# Altium schematic symbol library Schlib1.SchLib: 75 symbols (part 1 of 3)
Pins are listed as number, name and electrical type; pins without a type are passive.

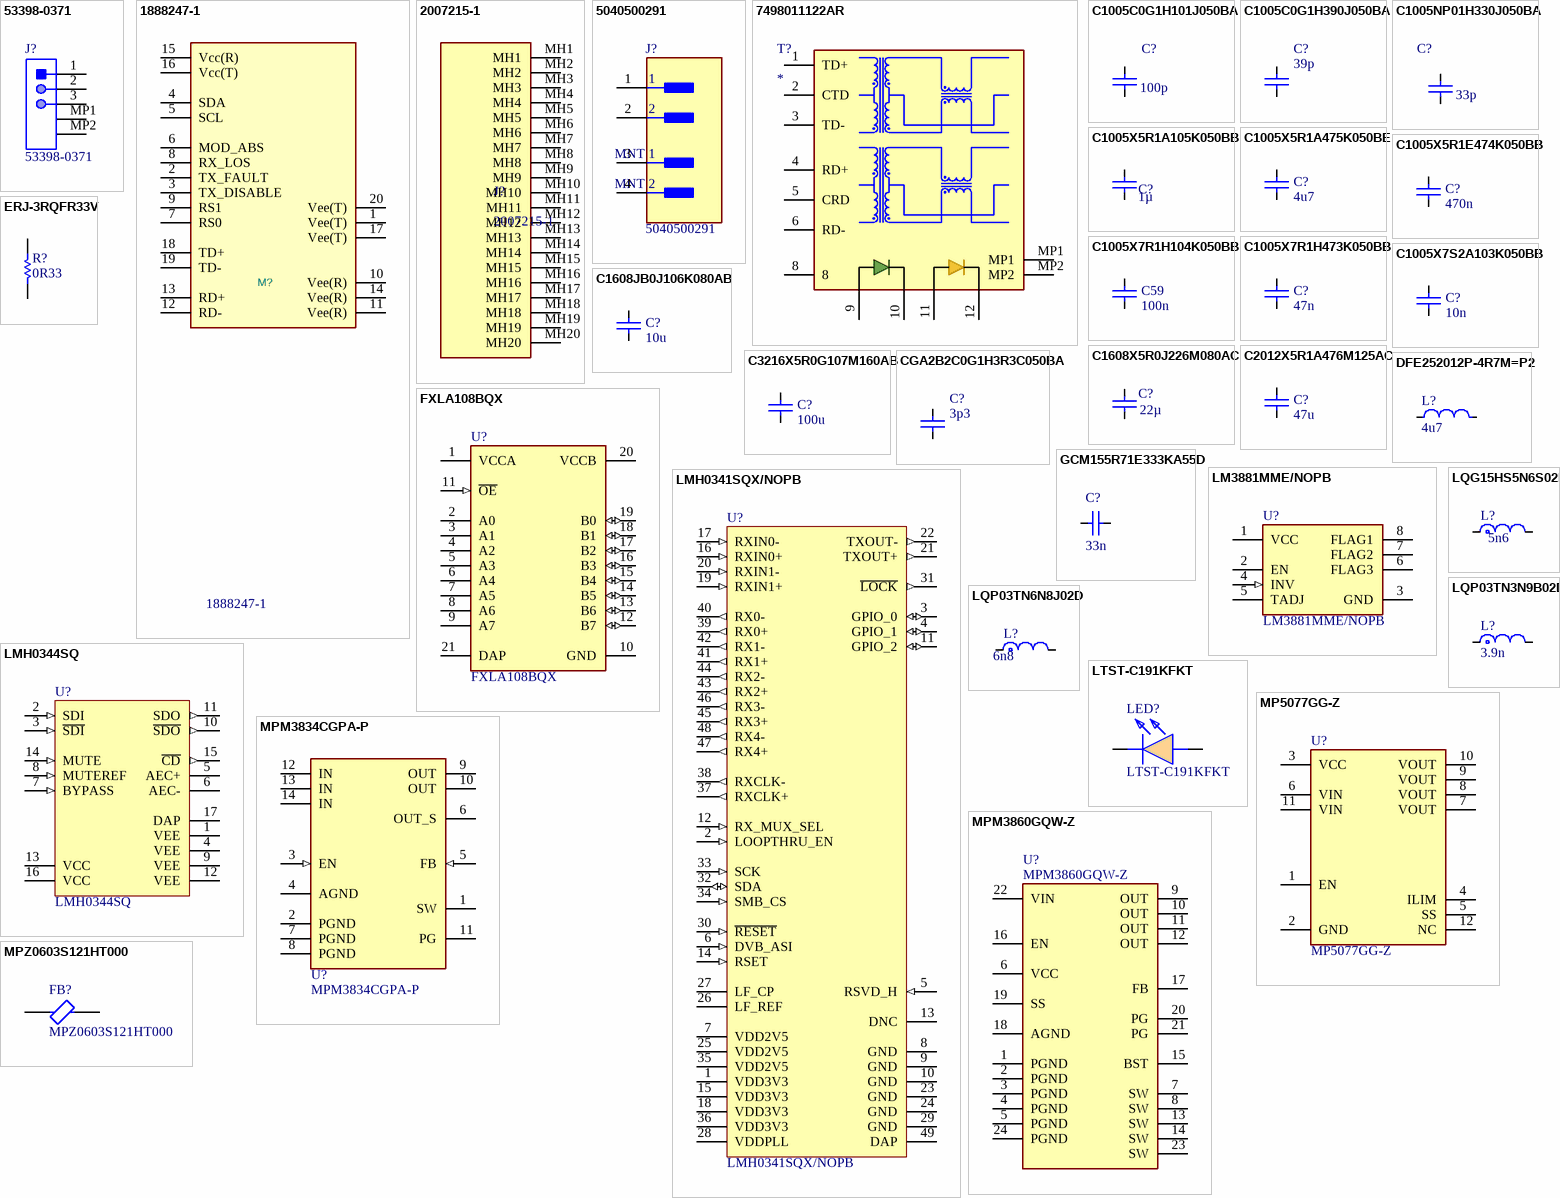
[diagram p0: symbols 53398-0371 to MPZ0603S121HT000]

## 53398-0371
designator J?
Male Header, Pitch 1.25 mm, 1 x 3 Position, Height 4.7 mm, -40 to 85 degC, RoHS, Tape and Reel; Voltage Rating: 125V; Brand: Molex; Pitch: 1.25mm; Mounting Angle: Vertical; Number of Positions: 3; Current Rating: 1A; Product Type: Headers; Tradename: PicoBlade; Package Reference: 53398-0371; Factory Pack Quantity: 1000; Product Category: Headers&WireHousings; Package Description: Male Header, Pitch 1.25 mm, 1 x 3 Position, Height 4.7 mm; Manufacturer: Molex; Packaging: Reel; Datasheet URL: http://www.molex.com/pdm_docs/sd/533980371_sd.pdf; Type: Shrouded; Manufacturer URL: http://www.molex.com/; Datasheet Version: Rev. J, 09/2015; Number of Positions / Contacts: 3; RoHS: Details; Contact Plating: Tin; Mounting Technology: SurfaceMount; Termination Style: SMD; Housing Material: Nylon; Number of Rows: 1; Mounting Style: SMD/SMT; Series: 53398; Contact Material: PhosphorBronze
footprint MOLX-53398-0371_V (SMD, 3-Leads, Body 8.9x3.7mm, Pitch 1.25mm)
pins: 1, 2, 3, MP1, MP2

## 1888247-1
designator M?
SFP+, Connector, .8mm [.031in] Centerline, Power & Signal, Operating Temperature Range -55 – 85 °C [-67 – 185 °F], Data Rate (Max) 16Gb/sec; Manufacturer: TE Connectivity (TE; License: Apache-2.0; Author: Parsa Malekpor; Value: 1888247-1; Part Number: 1888247-1
footprint 1888247-1
pins: 1 Vee(T), 2 TX_FAULT, 3 TX_DISABLE, 4 SDA, 5 SCL, 6 MOD_ABS, 7 RS0, 8 RX_LOS, 9 RS1, 10 Vee(R), 11 Vee(R), 12 RD-, 13 RD+, 14 Vee(R), 15 Vcc(R), 16 Vcc(T), 17 Vee(T), 18 TD+, 19 TD-, 20 Vee(T)

## 2007215-1
designator J?
Position SFP+ Cage Connector Press-Fit Through Hole
footprint 2007215-1
pins: MH1, MH2, MH3, MH4, MH5, MH6, MH7, MH8, MH9, MH10, MH11, MH12, MH13, MH14, MH15, MH16, MH17, MH18, MH19, MH20

## 5040500291
designator J?
CONN HEADER SMD R/A 2POS 1.5MM; Manufacturer: Molex; Current Rating: 3.5A; Conn Orientation: Right Angle; Conn Gender: Male; Number Of Contacts: 2; Voltage Rating: 150V; Lead Free: Yes; Contact Material: Gold,Nickel; Manufacturer Part Number: 5040500291; Digikey Description: CONN HEADER SMD R/A 2POS 1.5MM; Temperature: -40°C to +105°C; Category: Conn; Device Class L3: unset; Automotive: No; Device Class L1: Connectors; Number Of Rows: 1; Octopart: https://octopart.com/504050-0291-molex-99548498; Pitch: 1.5mm; Footprint Url: https://www.molex.com/pdm_docs/sd/5040500291_sd.pdf; ComponentLink2Description: Datasheet; ComponentLink2URL: https://www.molex.com/webdocs/datasheets/pdf/en-us/5040500291_PCB_HEADERS.pdf; Height: 2.15mm; RoHS: TRUE; Temperature Range High: +105°C; Device Class L2: Headers and Wire Housings; Temperature Range Low: -40°C; Package: 0
footprint FP-5040500291-MFG
pins: 1, 2, 3 MNT 1, 4 MNT 2

## 7498011122AR
designator T?
Transformer; Manufacturer_Name: Wurth Elektronik; Manufacturer_Part_Number: 7498011122AR; Datasheet Link: https://www.we-online.com/catalog/datasheet/7498011122AR.pdf; Height: 11mm; Mouser Part Number: 710-7498011122AR; Mouser Price/Stock: https://www.mouser.co.uk/ProductDetail/Wurth-Elektronik/7498011122AR?qs=GBLSl2AkiruAAlB45OgRtA%3D%3D
footprint 7498011122AR
pins: 1 TD+, 2 CTD, 3 TD-, 4 RD+, 5 CRD, 6 RD-, 8, 9 A_YELLOW, 10 K_YELLOW, 11 A_GREEN, 12 K_GREEN, MP1, MP2

## C1005C0G1H101J050BA
designator C?  value 100p  (hidden comment: C1005C0G1H101J050BA)
MLCC 100pF ±5% 50V C0G SMD 0402; Temperature Coefficient: 30ppm/°C; Dielectric Material: Ceramic; Packaging: Tape and Reel; Number of Pins: 2; Construction: Flat; Max Operating Temperature: 125°C; Depth: 0.5mm; Radiation Hardening: No; Length: 1mm; Mount: Surface Mount; Thickness: 0.022inch; RoHS Compliant: Yes; Width: 0.5mm; Termination: SMD/SMT; Min Operating Temperature: -55°C; Case/Package: 0402; Tolerance: 5%; Height: 0.5mm; Dielectric: C0G; REACH SVHC: No SVHC; Case Code (Imperial): 0402; Voltage Rating: 50V; Package Quantity: 1; Voltage Rating (DC): 50V; Weight: 2.3E-05oz; Series: C; Case Code (Metric): 1005; Voltage: 50V; Lead Free: Lead Free; Part Number: C1005C0G1H101J050BA
footprint FP-C1005-050-0_05-MFG
footprint FP-C1005-050-0_05-IPC_B
footprint FP-C1005-050-0_05-IPC_C
footprint FP-C1005-050-0_05-IPC_A
pins: 1, 2

## C1005C0G1H390J050BA
designator C?  value 39p  (hidden comment: C1005C0G1H390J050BA)
MLCC 39pF ±5% 50V C0G SMD 0402; Dielectric Material: Ceramic; Max Operating Temperature: 125°C; Voltage Rating: 50V; Height: 0.5mm; Tolerance: 5%; Width: 0.02inch; Mount: Surface Mount; Thickness: 0.022inch; Package Quantity: 1; Length: 1mm; Voltage Rating (DC): 50V; Case Code (Metric): 1005; Depth: 0.5mm; Series: C; Construction: Flat; Case/Package: 0402; Lead Free: Lead Free; RoHS Compliant: Yes; Termination: SMD/SMT; Radiation Hardening: No; Packaging: Tape and Reel; Min Operating Temperature: -55°C; Dielectric: C0G; Case Code (Imperial): 0402; Weight: 2.3E-05oz; Part Number: C1005C0G1H390J050BA
footprint FP-C1005-050-0_05-IPC_B
footprint FP-C1005-050-0_05-MFG
footprint FP-C1005-050-0_05-IPC_A
footprint FP-C1005-050-0_05-IPC_C
pins: 1, 2

## C1005NP01H330J050BA
designator C?  value 33p  (hidden comment: C1005NP01H330J050BA)
MLCC 33pF ±5% 50V NP0 SMD 0402; Dielectric: C0G; Case Code (Imperial): 0402; Thickness: 0.022inch; Width: 0.02inch; Case Code (Metric): 1005; Length: 0.039inch; Voltage Rating (DC): 50V; Mount: Surface Mount; Max Operating Temperature: 150°C; Height: 0.5mm; Weight: 2.3E-05oz; Voltage Rating: 50V; Case/Package: 0402; Features: High Temperature; Termination: SMD/SMT; Package Quantity: 10000; RoHS Compliant: Yes; Series: C; Tolerance: 5%; Min Operating Temperature: -55°C; Packaging: Tape and Reel; Part Number: C1005NP01H330J050BA
footprint FP-C1005-050-0_05-IPC_C
footprint FP-C1005-050-0_05-MFG
footprint FP-C1005-050-0_05-IPC_A
footprint FP-C1005-050-0_05-IPC_B
pins: 1, 2

## C1005X5R1A105K050BB
designator C?  value 1µ  (hidden comment: C1005X5R1A105K050BB)
MLCC 1 uF, +/- 10%, 10 V, -55 to 85 degC, 0402 (1005 Metric), RoHS, Tape and Reel; Manufacturer: TDK; PCN Part Number: MLCCPartNumberChange30/Nov/2012; Product Training Modules: CSeriesGeneralApplicationsSEAT,CCV,andTVCLDesignToolsGuidetoReplacinganElectrolyticCapacitorwithanMLCC; Voltage - Rated: 10V; Temperature Coefficient: X5R; Online Catalog: CSeries,GeneralPurpose; Other Names: 445-4114-6; Category: Capacitors; Features: -; Lead Style: -; RoHS Information: RoHSCertificate-MLCC; Manufacturer URL: http://www.tdk.com/; Lead Spacing: -; Thickness (Max): 0.022"(0.55mm); Applications: GeneralPurpose; Tolerance: ±10%; Mounting Technology: SurfaceMount; Mounting Type: SurfaceMount,MLCC; Operating Temperature: -55°C~85°C; Datasheet URL: http://download.siliconexpert.com/pdfs/2015/4/21/15/54/45/779/tdk_/manual/37024850441143360mlcc_commercial_general_en.pdf; Package Reference: 1005; Height - Seated (Max): -; Family: CeramicCapacitors; Datasheet Version: 03/2015; Package Description: 2-Pin Surface Mount Device, Body 1 x 0.5 mm; Packaging: Digi-Reel®; Size / Dimension: 0.039"Lx0.020"W(1.00mmx0.50mm); Standard Package: 1; Package / Case: 0402(1005Metric); Ratings: -; Series: C; Part Number: C1005X5R1A105K050BB
footprint CAPC1005X55X10LL05 (Chip Capacitor, 2-Leads, Body 1.05x0.55mm, IPC High Density)
footprint CAPC1005X55X10NL05 (Chip Capacitor, 2-Leads, Body 1.05x0.55mm, IPC Medium Density)
pins: 1, 2

## C1005X5R1A475K050BE
designator C?  value 4u7  (hidden comment: C1005X5R1A475K050BE)
MLCC  4.7UF ±20 10V X5R 0402; Tolerance: 10%; Max Operating Temperature: 85°C; Case Code (Metric): 1005; Voltage Rating: 10V; Packaging: Tape and Reel; Case/Package: 0402; Features: Soft Termination; Min Operating Temperature: -55°C; Mount: Surface Mount; Case Code (Imperial): 0402; RoHS Compliant: Yes; Part Number: C1005X5R1A475K050BE
footprint FP-C1005-050-0_20-0_10-MFG
footprint FP-C1005-050-0_20-0_10-IPC_C
footprint FP-C1005-050-0_20-0_10-IPC_B
footprint FP-C1005-050-0_20-0_10-IPC_A
pins: 1, 2

## C1005X5R1E474K050BB
designator C?  value 470n  (hidden comment: C1005X5R1E474K050BB)
MLCC 470nF ±10% 25V X5R SMD 0402; Dielectric Material: Ceramic; Dissipation Factor: 10%; Case Code (Metric): 1005; RoHS Compliant: Yes; Lead Free: Lead Free; Length: 1mm; Case/Package: 0402; Termination: SMD/SMT; Dielectric: X5R; Depth: 0.5mm; Series: C; Voltage: 25V; Tolerance: 10%; Packaging: Tape and Reel; Resistor Type: Ceramic; Min Operating Temperature: -55°C; Width: 0.02inch; Thickness: 500um; Package Quantity: 10000; Case Code (Imperial): 0402; Construction: Flat; Height: 0.5mm; REACH SVHC: No SVHC; Radiation Hardening: No; Weight: 2.3E-05oz; Mount: Surface Mount; Voltage Rating (DC): 25V; Max Operating Temperature: 85°C; Part Number: C1005X5R1E474K050BB; Voltage Rating: 25V
footprint FP-C1005-050-0_05-IPC_C
pins: 1, 2

## C1005X7R1H104K050BB
designator C59  value 100n  (hidden comment: C1005X7R1H104K050BB)
MLCC 100nF ±10% 50V X7R SMD 0402; Dielectric Material: Ceramic; Voltage: 50V; Min Operating Temperature: -55°C; Depth: 0.5mm; Radiation Hardening: No; RoHS Compliant: Yes; Voltage Rating (DC): 50V; Lead Free: Lead Free; Resistor Type: Ceramic; Height: 0.5mm; Dielectric: X7R; Thickness: 0.022inch; Case/Package: 0402; Case Code (Metric): 1005; Termination: SMD/SMT; Packaging: Tape and Reel; Max Operating Temperature: 125°C; Mount: Surface Mount; Package Quantity: 1; Width: 0.02inch; Weight: 2.3E-05oz; Voltage Rating: 50V; Tolerance: 10%; Construction: Flat; Case Code (Imperial): 0402; Length: 1mm; REACH SVHC: No SVHC; Series: C; Part Number: C1005X7R1H104K050BB
footprint FP-C1005-050-0_05-IPC_C
footprint FP-C1005-050-0_05-IPC_A
footprint FP-C1005-050-0_05-IPC_B
footprint FP-C1005-050-0_05-MFG
pins: 1, 2

## C1005X7R1H473K050BB
designator C?  value 47n  (hidden comment: C1005X7R1H473K050BB)
MLCC 47nF ±10% 50V X7R SMD 0402; Dielectric Material: Ceramic; Dissipation Factor: 5%; Weight: 2.3E-05oz; Max Operating Temperature: 125°C; Package Quantity: 1; Width: 0.02inch; Min Operating Temperature: -55°C; Length: 1mm; Dielectric: X7R; Voltage Rating: 50V; Number of Pins: 2; Lead Free: Lead Free; Voltage: 50V; Height: 0.5mm; Case Code (Metric): 1005; Voltage Rating (DC): 50V; Construction: Flat; Termination: SMD/SMT; Case Code (Imperial): 0402; Depth: 0.5mm; Packaging: Tape and Reel; Mount: Surface Mount; Series: C; RoHS Compliant: Yes; Tolerance: 10%; Case/Package: 0402; Thickness: 0.022inch; Radiation Hardening: No; Resistor Type: Ceramic; REACH SVHC: No SVHC; Part Number: C1005X7R1H473K050BB
footprint FP-C1005-050-0_05-IPC_C
pins: 1, 2

## C1005X7S2A103K050BB
designator C?  value 10n  (hidden comment: C1005X7S2A103K050BB)
MLCC 10nF ±10% 100V X7S SMD 0402; Dielectric Material: Ceramic; Dissipation Factor: 5%; Case Code (Imperial): 0402; Packaging: Tape and Reel; Voltage Rating (DC): 100V; Max Operating Temperature: 125°C; Min Operating Temperature: -55°C; Case Code (Metric): 1005; Weight: 2.3E-05oz; Length: 1mm; Width: 0.02inch; Tolerance: 10%; Series: C; Package Quantity: 1; RoHS Compliant: Yes; Voltage: 100V; Resistor Type: Ceramic; Number of Pins: 2; Mount: Surface Mount; Height: 0.5mm; Termination: SMD/SMT; Dielectric: X7S; Thickness: 0.022inch; REACH SVHC: No SVHC; Lead Free: Lead Free; Voltage Rating: 100V; Case/Package: 0402; Depth: 0.5mm; Part: *; Part Number: C1005X7S2A103K050BB
footprint FP-C1005-050-0_05-IPC_B
footprint FP-C1005-050-0_05-MFG
footprint FP-C1005-050-0_05-IPC_A
footprint FP-C1005-050-0_05-IPC_C
pins: 1, 2

## C1608JB0J106K080AB
designator C?  value 10u  (hidden comment: C1608JB0J106K080AB)
MLCC 10μF ±10% 6.3V JB SMD 0603; Dielectric Material: Ceramic; Case Code (Imperial): 0603; Thickness: 0.035inch; Min Operating Temperature: -25°C; Termination: SMD/SMT; Lead Free: Lead Free; Resistor Type: Ceramic; Width: 0.8mm; Voltage Rating (DC): 6.3V; Package Quantity: 4000; Tolerance: 10%; Length: 0.063inch; Series: C; Height: 0.8mm; Max Operating Temperature: 85°C; Mount: Surface Mount; RoHS Compliant: Yes; Voltage Rating: 6.3V; Case Code (Metric): 1608; Case/Package: 0603; Packaging: Tape and Reel
footprint FP-C1608-080-0_1-IPC_B
footprint FP-C1608-080-0_1-MFG
footprint FP-C1608-080-0_1-IPC_A
footprint FP-C1608-080-0_1-IPC_C
pins: 1, 2

## C1608X5R0J226M080AC
designator C?  value 22µ  (hidden comment: C1608X5R0J226M080AC)
MLCC 22 uF, ±20%, 6.3 V, -55 to 85 degC, 1608 (0603 Metric), RoHS, Tape and Reel; PCN Part Number: MLCCPartNumberChange30/Nov/2012; Manufacturer: TDK; Temperature Coefficient: X5R; Product Training Modules: CSeriesGeneralApplicationsSEAT,CCV,andTVCLDesignToolsGuidetoReplacinganElectrolyticCapacitorwithanMLCC; Other Names: 445-8028-1; Voltage - Rated: 6.3V; Design Resources: 20WNon-IsolatedBuckLEDDriverUsingPLLNK460KG; Online Catalog: CSeries,GeneralPurpose; Kits: 445-9003-KIT-ND-KITCAPCERHICAPMLCCSMD; Tolerance: ±20%; Series: C; Thickness (Max): 0.039"(1.00mm); Mounting Type: SurfaceMount,MLCC; Ratings: -; Datasheet Version: Mar-15; Package Reference: 603; Packaging: CutTape(CT); Features: -; Package / Case: 0603(1608Metric); Family: CeramicCapacitors; Lead Spacing: -; RoHS Information: RoHSCertificate-MLCC; Manufacturer URL: http://www.tdk.com/; Lead Style: -; Category: Capacitors; Applications: GeneralPurpose; Package Description: 2-Pin Surface Mount Device, Body 1.6 x 0.8 mm; Standard Package: 1; Datasheet URL: http://www.farnell.com/datasheets/1913358.pdf; Height - Seated (Max): -; Operating Temperature: -55degC~85degC; Size / Dimension: 0.063"Lx0.031"W(1.60mmx0.80mm)
footprint CAPC1608X100X20ML10 (Chip Capacitor, 2-Leads, Body 1.70x0.90mm, IPC Low Density)
footprint CAPC1608X100X20NL10 (Chip Capacitor, 2-Leads, Body 1.70x0.90mm, IPC Medium Density)
footprint CAPC1608X100X20LL10 (Chip Capacitor, 2-Leads, Body 1.70x0.90mm, IPC High Density)
pins: 1, 2

## C2012X5R1A476M125AC
designator C?  value 47u  (hidden comment: C2012X5R1A476M125AC)
MLCC 47μF ±20% 10V X5R SMD 0805 Multilayer Ceramic Capacitors; RoHS Compliant: Yes; Dielectric: X5R; Case Code (Imperial): 0805; Min Operating Temperature: -55°C; Length: 2mm; Voltage Rating: 10V; Lead Free: Lead Free; Weight: 0.000194oz; Resistor Type: Ceramic; Dielectric Material: Ceramic; Max Operating Temperature: 85°C; Height: 1.25mm; Width: 0.049inch; Depth: 1.25mm; Termination: SMD/SMT; Case/Package: 0805; Voltage Rating (DC): 10V; Voltage: 10V; Thickness: 0.057inch; Tolerance: 20%; REACH SVHC: No SVHC; Package Quantity: 1; Series: C; Case Code (Metric): 2012; Mount: Surface Mount; Packaging: Tape and Reel; Part Number: C2012X5R1A476M125AC
footprint FP-C2012-125-0_2-IPC_B
footprint FP-C2012-125-0_2-MFG
footprint FP-C2012-125-0_2-IPC_A
footprint FP-C2012-125-0_2-IPC_C
pins: 1, 2

## C3216X5R0G107M160AB
designator C?  value 100u  (hidden comment: C3216X5R0G107M160AB)
MLCC 100uF ±20% 4V X5R SMD 1206; Dielectric Material: Ceramic; Dielectric: X5R; Voltage Rating (DC): 4V; Lead Free: Lead Free; Max Operating Temperature: 85°C; Construction: Flat; Termination: SMD/SMT; Mount: Surface Mount; Thickness: 0.071inch; Height: 1.6mm; Width: 0.063inch; Resistor Type: Ceramic; Radiation Hardening: No; Case/Package: 1206; Series: C; Weight: 0.000571oz; Depth: 1.6mm; RoHS Compliant: Yes; Package Quantity: 2000; Case Code (Metric): 3216; Length: 3.2mm; Case Code (Imperial): 1206; Tolerance: 20%; Packaging: Tape and Reel; Voltage Rating: 4V; Min Operating Temperature: -55°C; Part Number: C3216X5R0G107M160AB
footprint FP-C3216-160-0_3-IPC_B
footprint FP-C3216-160-0_3-IPC_C
footprint FP-C3216-160-0_3-IPC_A
footprint FP-C3216-160-0_3-MFG
pins: 1, 2

## CGA2B2C0G1H3R3C050BA
designator C?  value 3p3  (hidden comment: CGA2B2C0G1H3R3C050BA)
Capacitor; Manufacturer_Name: TDK; Datasheet Link: http://docs-europe.electrocomponents.com/webdocs/14e9/0900766b814e9125.pdf; Height: 0.55mm; Part Number: CGA2B2C0G1H3R3C050BA
footprint CAPC1005X55N
pins: 1, 2

## DFE252012P-4R7M=P2
designator L?  value 4u7  (hidden comment: DFE252012P-4R7M=P2)
Shielded Wirewound Inductor 4.7uH 20% 1400mA 0.2Ω 1008 (2520); Core Material: Ferrite; Test Frequency: 1MHz; DC Resistance (DCR): 200mR; Max DC Current: 1.4A; Current Rating: 2A; Case Code (Metric): 2520; Case Code (Imperial): 1008; Inductance: 4.7uH; Mount: Surface Mount; Packaging: Tape and Reel; Depth: 2mm; Length: 0.098inch; Case/Package: 1008; Max Operating Temperature: 125°C; Shielding: Shielded; Width: 0.079inch; Height - Seated (Max): 0.047inch; Tolerance: 20%; Min Operating Temperature: -40°C; Resistor Type: Wirewound
footprint FP-DFE252012C-IPC_C
footprint FP-DFE252012C-IPC_A
footprint FP-DFE252012C-MFG
footprint FP-DFE252012C-IPC_B
pins: 1, 2

## ERJ-3RQFR33V
designator R?  value 0R33  (hidden comment: ERJ-3RQFR33V)
Manufacturer: Panasonic; Part Number: ERJ-3RQFR33V
footprint RESC1608X55X30ML15T15 (Chip Resistor, 2-Leads, Body 1.60x0.80mm, IPC Low Density)
footprint RESC1608X55X30LL15T15 (Chip Resistor, 2-Leads, Body 1.60x0.80mm, IPC High Density)
footprint RESC1608X55X30NL15T15 (Chip Resistor, 2-Leads, Body 1.60x0.80mm, IPC Medium Density)
pins: 1, 2
1 alternate drawing of the same symbol

## FXLA108BQX
designator U?
IC TRNSLTR BIDIRECTIONAL 20DQFN; Manufacturer: ON Semiconductor; Number Of Outputs: 8; V A Min: 1.1V; Logic Function Desc: Non-Inverting; Propagation Delay: 4ns; Quiescent Current: 10uA; V A Max: 3.6V; Data Rate: 140Mbits/s; Number Of Circuits: 1; Standoff Height: 0mm; Footprint Url: https://www.onsemi.com/pub/Collateral/510CD.PDF; Digikey Description: IC TRNSLTR BIDIRECTIONAL 20DQFN; RoHS: TRUE; ComponentLink2URL: https://www.onsemi.com/pub/Collateral/FXLA108-D.pdf; Mouser Description: Bus Transceivers Dual Supply 8-Bit Voltage Translator; Category: IC; Number Of Inputs: 8; Temperature: -40°C to +85°C; Ambient Temperature Range Low: -40°C; Ambient Temperature Range High: +85°C; Device Class L2: Logic ICs; Device Class L1: Integrated Circuits (ICs); ComponentLink2Description: Datasheet; Height: 0.8mm; Manufacturer Part Number: FXLA108BQX; Octopart: https://octopart.com/fxla108bqx-on+semiconductor-84328716; V B Max: 3.6V; Device Class L3: Voltage Level Shifters; Temperature Range Low: -40°C; Lead Free: Yes; Automotive: No; V B Min: 1.1V; Package: 510CD; Temperature Range High: +85°C
footprint FP-510CD-MFG
pins: 1 VCCA (power), 2 A0, 3 A1, 4 A2, 5 A3, 6 A4, 7 A5, 8 A6, 9 A7, 10 GND (power), 11 ~{OE} (in), 12 B7 (io), 13 B6 (io), 14 B5 (io), 15 B4 (io), 16 B3 (io), 17 B2 (io), 18 B1 (io), 19 B0 (io), 20 VCCB (power), 21 DAP (power)

## GCM155R71E333KA55D
designator C?  value 33n  (hidden comment: GCM155R71E333KA55D)
Ceramic Capacitor for Automotive 33nF ±10% 25VDC X7R 0402 Paper T/R; Voltage Rating: 25V; Case Code (Imperial): 0402; Packaging: Tape and Reel; Package Quantity: 10000; Dielectric: X7R; Depth: 0.5mm; Max Operating Temperature: 125°C; Case Code (Metric): 1005; Termination: SMD/SMT; Height: 0.5mm; Width: 0.02inch; REACH SVHC: No SVHC; Tolerance: 10%; Voltage Rating (DC): 25V; Capacitance: 33nF; Ratings: AEC-Q200; Radiation Hardening: No; Mount: Surface Mount; Min Operating Temperature: -55°C; Thickness: 0.022inch; Case/Package: 0402; Length: 1mm; Lead Free: Lead Free
footprint FP-GCM155-0_05-IPC_A
footprint FP-GCM155-0_05-IPC_C
footprint FP-GCM155-0_05-MFG
footprint FP-GCM155-0_05-IPC_B
pins: 1, 2

## LM3881MME/NOPB
designator U?
IC POWER SUPPLY SEQUENCER 8VSSOP; Manufacturer: Texas Instruments; Standoff Height: 0.05mm; Max Supply Voltage: 5.5V; Reset Timeout: 9.6ms; Nominal Supply Current: 80uA; Output Current: 0.001uA; Reset Type: Active Low,Active High; Max Junction Temp: +125°C; Number Of Outputs: 3; Number Of Rails Monitored: 1; Min Supply Voltage: 2.7V; Threshold Voltage: 1.22V; Footprint 2 Description: TSOP, 8-Leads, Body 3x3mm, Pitch 0.65mm, IPC Low Density; Manufacturer Part Number: LM3881MME/NOPB; Package: DGK0008A; Digikey Description: IC POWER SUPPLY SEQUENCER 8VSSOP; Temperature Range Low: -40°C; Mouser Description: 3 Rail Simple Power Sequencer with Adjustable Time Delay 8-VSSOP -40 to 125; Temperature: -40°C to +125°C; ComponentLink2Description: Datasheet; Category: IC; ComponentLink2URL: http://www.ti.com/lit/ds/symlink/lm3881.pdf; Device Class L1: Integrated Circuits (ICs); Device Class L2: Power Management ICs; Temperature Range High: +125°C; Footprint 0 Description: TSOP, 8-Leads, Body 3x3mm, Pitch 0.65mm, IPC Medium Density; Octopart: https://octopart.com/lm3881mme%2Fnopb-texas+instruments-24814197; RoHS: TRUE; Ipc Land Pattern Name: SOP65P300X110-8; Footprint 1 Description: TSOP, 8-Leads, Body 3x3mm, Pitch 0.65mm, IPC High Density; Lead Free: Yes; Height: 1.1mm; Device Class L3: Voltage Supervisors; Automotive: No
footprint FP-DGK0008A-MFG
footprint FP-DGK0008A-IPC_C
footprint FP-DGK0008A-IPC_B
footprint FP-DGK0008A-IPC_A
pins: 1 VCC (power), 2 EN, 3 GND (power), 4 INV (in), 5 TADJ, 6 FLAG3 (oc), 7 FLAG2 (oc), 8 FLAG1 (oc)

## LMH0341SQX/NOPB
designator U?
3 Gbps, HD, SD, DVB-ASI SDI Deserializer with Loopthrough and LVDS Interface, 48-pin LLP, Pb-Free; Manufacturer: Texas Instruments; Manufacturer Part Number: RC0402FR-075KL; CompType: Interface IC; PowerWise: N; PackageTopMarking: NS*UZXYTTE#*L0341; Max Power Dissipation: 63mW; Power Dissipation: 62.5mW; Temperature Coefficient: 100ppm/°C; Tolerance: 1%; Voltage Rating: 50V; Part Number: LMH0341SQX/NOPB; PackageDescription: LLP, Plastic, Quad, 7 x 7 x 0.8mm Body, 48 Lead, 0.5mm Pitch, No Pullback; PinCount: 48; ComponentLink1URL: http://www.ti.com/general/docs/lit/getliterature.tsp?genericPartNumber=LMH0341&fileType=pdf; Code_JEDEC: MO-220-WKKD-2; PackageReference: RHS0048A; RoHS: Y; ComponentLink1Description: Datasheet URL; Supplier: Farnell; Supplier Part Number: 3950792; Category: Chip SMD Resistors; Stock: 54567; Pricing: 10=2.15, 100=1.16, 500=0.992, 2500=0.823, 5000=0.807 (JPY); Case/Package: 0402; China RoHS: Non-Compliant; Composition: Thick Film; Country of Origin: Mainland China, Taiwan; Export Control Classification Number (ECCN) Code: EAR99; Features: Moisture Resistant; Height: 350µm; Harmonized Tariff Schedule (HTS) Code: 8533.21.00.30; Introduction Date: 2011-11-17; Length: 990.6µm; Lifecycle Status: Production; Max Operating Temperature: 155°C; Min Operating Temperature: -55°C; Mounting Technology: Surface Mount; Number of Terminals: 2; Number of Terminations: 2; Power Rating: 62.5mW; REACH SVHC: Yes; Schedule B: 8533210045, 8533210045|8533210045|8533210045|8533210045|8533210045; Width: 500µm; Working Voltage: 50V; ComponentLink2URL: https://datasheet.octopart.com:443/RC0402FR-075KL-Yageo-datasheet-127823281.pdf?src-supplier=Upverter; ComponentLink2Description: https://datasheet.octopart.com:443/RC0402FR-075KL-Yageo-datasheet-127823281.pdf?src-supplier=Upverter; ComponentLink3URL: https://datasheet.octopart.com:443/RC0402FR-075KL-Yageo-datasheet-137700087.pdf?src-supplier=IHS; ComponentLink3Description: https://datasheet.octopart.com:443/RC0402FR-075KL-Yageo-datasheet-137700087.pdf?src-supplier=IHS; ComponentLink4URL: https://datasheet.octopart.com:443/RC0402FR-075KL-Yageo-Group-datasheet-176638170.pdf?src-supplier=Future+Electronics; ComponentLink4Description: https://datasheet.octopart.com:443/RC0402FR-075KL-Yageo-Group-datasheet-176638170.pdf?src-supplier=Future+Electronics; ComponentLink5URL: https://datasheet.octopart.com:443/RC0402FR-075KL-Yageo-datasheet-164759695.pdf?src-supplier=Future+Electronics; ComponentLink5Description: https://datasheet.octopart.com:443/RC0402FR-075KL-Yageo-datasheet-164759695.pdf?src-supplier=Future+Electronics; ComponentLink6URL: https://datasheet.octopart.com:443/RC0402FR-075KL-Yageo-datasheet-175887523.pdf?src-supplier=Newark; ComponentLink6Description: https://datasheet.octopart.com:443/RC0402FR-075KL-Yageo-datasheet-175887523.pdf?src-supplier=Newark; ComponentLink7URL: https://datasheet.octopart.com/RC0402FR-075KL-Yageo-datasheet-73766026.pdf; ComponentLink7Description: https://datasheet.octopart.com/RC0402FR-075KL-Yageo-datasheet-73766026.pdf; ComponentLink8URL: http://sigma.octopart.com:80/conflict_mineral_statement/Yageo-company-3.pdf?src-supplier=Compliance+Statements; ComponentLink8Description: http://sigma.octopart.com:80/conflict_mineral_statement/Yageo-company-3.pdf?src-supplier=Compliance+Statements; ComponentLink9URL: http://sigma.octopart.com:80/rohs_statement/Yageo-company-2.pdf?src-supplier=Compliance+Statements; ComponentLink9Description: http://sigma.octopart.com:80/rohs_statement/Yageo-company-2.pdf?src-supplier=Compliance+Statements
footprint RHS0048A_V (QFN, 48-Leads, Body 7x7mm, Pitch 0.5mm, TI Recommended)
pins: 1 VDD3V3 (power), 2 LOOPTHRU_EN (in), 3 GPIO_0 (io), 4 GPIO_1 (io), 5 RSVD_H (in), 6 DVB_ASI (in), 7 VDD2V5 (power), 8 GND (power), 9 GND (power), 10 GND (power), 11 GPIO_2 (io), 12 RX_MUX_SEL (in), 13 DNC, 14 RSET (in), 15 VDD3V3 (power), 16 RXIN0+ (in), 17 RXIN0- (in), 18 VDD3V3 (power), 19 RXIN1+ (in), 20 RXIN1- (in), 21 TXOUT+ (out), 22 TXOUT- (out), 23 GND (power), 24 GND (power), 25 VDD2V5 (power), 26 LF_REF, 27 LF_CP, 28 VDDPLL (power), 29 GND (power), 30 ~{RESET} (in), 31 ~{LOCK} (out), 32 SDA (io), 33 SCK (in), 34 SMB_CS (in), 35 VDD2V5 (power), 36 VDD3V3 (power), 37 RXCLK+ (out), 38 RXCLK- (out), 39 RX0+ (out), 40 RX0- (out), 41 RX1+ (out), 42 RX1- (out), 43 RX2+ (out), 44 RX2- (out), 45 RX3+ (out), 46 RX3- (out), 47 RX4+ (out), 48 RX4- (out), 49 DAP (power)

## LMH0344SQ
designator U?
3 Gbps HD/SD SDI Adaptive Cable Equalizer, 16-pin LLP; Manufacturer: National Semiconductor; Manufacturer Part Number: RC0402FR-070RL; PowerWise: N; PackageTopMarking: NS*UZXYTT*L0344; CompType: Interface IC; Power Dissipation: 62.5mW; Power Rating: 63mW; Tolerance: 1%; Voltage Rating: 50V; RevisionNote: Component URLs added; ComponentLink1Description: LMH0344 Datasheet; ComponentLink3URL: http://www.national.com/packaging/folders/sqb16a.html; PackageDescription: LLP, Plastic, Quad, 4 x 4 x 0.8mm, 16 Lead, 0.65mm Pitch, No Pullback; ComponentLink2URL: http://www.national.com/pf/LM/LMH0344.html; DatasheetVersion: Jul-2009; ComponentLink1URL: http://www.national.com/ds/LM/LMH0344.pdf; PinCount: 16; RoHS: Y; ComponentLink2Description: LMH0344 Web Page; PackageReference: SQB16A; ComponentLink3Description: SQB16A Package Page; PackageVersion: revA, Dec-2005; Supplier: Avnet; Supplier Part Number: RC0402FR-070RL; Category: Chip SMD Resistors; Stock: 290000; Pricing: 10000=0.00106, 20000=0.00102, 40000=0.00099, 80000=0.00095, 160000=0.00092 (USD); Case/Package: 0402; Case Code (Imperial): 0402; Case Code (Metric): 1005; China RoHS: Non-Compliant; Composition: Thick Film; Contact Plating: Tin; Country of Origin: Mainland China, Taiwan; Export Control Classification Number (ECCN) Code: EAR99; Height: 350µm; Harmonized Tariff Schedule (HTS) Code: 8533.21.00.30; Introduction Date: 2004-09-22; Lead Free: Lead Free; Length: 1mm; Lifecycle Status: Production; Max Operating Temperature: 155°C; Min Operating Temperature: -55°C; Mounting Technology: Surface Mount; Number of Terminals: 2; Packaging: Tape & Reel; Radiation Hardening: No; REACH SVHC: Yes; Termination: SMD/SMT; Width: 500µm; ComponentLink4URL: https://datasheet.octopart.com:443/RC0402FR-070RL-Yageo-datasheet-141265859.pdf?src-supplier=Upverter; ComponentLink4Description: https://datasheet.octopart.com:443/RC0402FR-070RL-Yageo-datasheet-141265859.pdf?src-supplier=Upverter; ComponentLink5URL: https://sigma.octopart.com:443/138820526/technical_drawing/Yageo-RC0402FR-070RL.pdf?src-supplier=Upverter; ComponentLink5Description: https://sigma.octopart.com:443/138820526/technical_drawing/Yageo-RC0402FR-070RL.pdf?src-supplier=Upverter; ComponentLink6URL: https://datasheet.octopart.com:443/RC0402FR-070RL-Yageo-datasheet-12531192.pdf?src-supplier=IHS; ComponentLink6Description: https://datasheet.octopart.com:443/RC0402FR-070RL-Yageo-datasheet-12531192.pdf?src-supplier=IHS; ComponentLink7URL: https://datasheet.octopart.com:443/RC0402FR-070RL-Yageo-Group-datasheet-176638170.pdf?src-supplier=Future+Electronics; ComponentLink7Description: https://datasheet.octopart.com:443/RC0402FR-070RL-Yageo-Group-datasheet-176638170.pdf?src-supplier=Future+Electronics; ComponentLink8URL: https://datasheet.octopart.com:443/RC0402FR-070RL-Yageo-datasheet-164759695.pdf?src-supplier=Future+Electronics; ComponentLink8Description: https://datasheet.octopart.com:443/RC0402FR-070RL-Yageo-datasheet-164759695.pdf?src-supplier=Future+Electronics; ComponentLink9URL: https://datasheet.octopart.com:443/RC0402FR-070RL-Yageo-datasheet-137700087.pdf?src-supplier=Future+Electronics; ComponentLink9Description: https://datasheet.octopart.com:443/RC0402FR-070RL-Yageo-datasheet-137700087.pdf?src-supplier=Future+Electronics; ComponentLink10URL: https://datasheet.octopart.com:443/RC0402FR-070RL-Yageo-datasheet-10408619.pdf?src-supplier=Future+Electronics; ComponentLink10Description: https://datasheet.octopart.com:443/RC0402FR-070RL-Yageo-datasheet-10408619.pdf?src-supplier=Future+Electronics; ComponentLink11URL: https://datasheet.octopart.com:443/RC0402FR-070RL-Yageo-datasheet-8324527.pdf?src-supplier=Future+Electronics; ComponentLink11Description: https://datasheet.octopart.com:443/RC0402FR-070RL-Yageo-datasheet-8324527.pdf?src-supplier=Future+Electronics; ComponentLink12URL: https://datasheet.octopart.com:443/RC0402FR-070RL-Yageo-datasheet-79472498.pdf?src-supplier=Megastar; ComponentLink12Description: https://datasheet.octopart.com:443/RC0402FR-070RL-Yageo-datasheet-79472498.pdf?src-supplier=Megastar; ComponentLink13URL: https://datasheet.octopart.com/RC0402FR-070RL-Yageo-datasheet-73766026.pdf; ComponentLink13Description: https://datasheet.octopart.com/RC0402FR-070RL-Yageo-datasheet-73766026.pdf; ComponentLink14URL: http://sigma.octopart.com:80/conflict_mineral_statement/Yageo-company-3.pdf?src-supplier=Compliance+Statements; ComponentLink14Description: http://sigma.octopart.com:80/conflict_mineral_statement/Yageo-company-3.pdf?src-supplier=Compliance+Statements; ComponentLink15URL: http://sigma.octopart.com:80/rohs_statement/Yageo-company-2.pdf?src-supplier=Compliance+Statements; ComponentLink15Description: http://sigma.octopart.com:80/rohs_statement/Yageo-company-2.pdf?src-supplier=Compliance+Statements
footprint SQB16A (QFN, 16-Leads, Body 4x4mm, Pitch 0.65mm, Thermal Pad 2.6x2.6mm, NSC Recommended)
pins: 1 VEE (power), 2 SDI (in), 3 ~{SDI} (in), 4 VEE (power), 5 AEC+, 6 AEC-, 7 BYPASS (in), 8 MUTEREF (in), 9 VEE (power), 10 ~{SDO} (out), 11 SDO (out), 12 VEE (power), 13 VCC (power), 14 MUTE (in), 15 ~{CD} (out), 16 VCC (power), 17 DAP (power)

## LQG15HS5N6S02D
designator L?  value 5n6  (hidden comment: LQG15HS5N6S02D)
Multilayer type RF Inductor 5.6nH ±0.3nH 0.18Ω 650mA 0402; Core Material: Air; Test Frequency: 100MHz; DC Resistance (DCR): 200mR; Shielding: Unshielded; DC Current: 300mA; Self Resonant Frequency: 4.5GHz; Q Factor: 8; Lead Free: Lead Free; Case/Package: 0402; Packaging: Tape and Reel; Height: 0.5mm; Package Quantity: 10000; Max Operating Temperature: 125°C; Termination: SMD/SMT; Width: 0.5mm; Height - Seated (Max): 0.022inch; Depth: 0.55mm; Min Operating Temperature: -55°C; Military Standard: Not; Radiation Hardening: No; Length: 1mm; Case Code (Metric): 1005; Mount: Surface Mount; Case Code (Imperial): 0402; Inductance: 5.6nH; Max DC Current: 300mA; Current Rating: 300mA
footprint FP-LQG15HH_02-MFG
footprint FP-LQG15HH_02-IPC_B
footprint FP-LQG15HH_02-IPC_C
footprint FP-LQG15HH_02-IPC_A
pins: 1, 2

## LQP03TN3N9B02D
designator L?  value 3.9n  (hidden comment: LQP03TN3N9B02D)
Film type RF Inductor 3.9nH ±0.1nH 400mA 0.3Ω 0201 (0603); DC Resistance (DCR): 300mR; Core Material: Non-Magnetic; Test Frequency: 500MHz; Q Factor: 14; Shielding: Unshielded; Current: 250mA; Self Resonant Frequency: 5.7GHz; Tolerance: 3%; Case/Package: 0201; Height - Seated (Max): 0.013inch; Termination: SMD/SMT; Package Quantity: 15000; Series: LQP; Depth: 0.33mm; Lead Free: Lead Free; Inductance: 3.9nH; Rated Current-Max: 400mA; Length: 0.6mm; Height: 0.3mm; Case Code (Metric): 0603; Resistor Type: Thin Film; Packaging: Tape and Reel; Radiation Hardening: No; Technology: THIN FILM; Max DC Current: 400mA; Military Standard: Not; Min Operating Temperature: -55°C; Width: 0.012inch; DC Current: 400mA; Mount: Surface Mount; REACH SVHC: No SVHC; Current Rating: 400mA; Max Operating Temperature: 125°C; Case Code (Imperial): 0201
footprint FP-LQP03TG_02-IPC_A
footprint FP-LQP03TG_02-IPC_C
footprint FP-LQP03TG_02-MFG
footprint FP-LQP03TG_02-IPC_B
pins: 1, 2

## LQP03TN6N8J02D
designator L?  value 6n8  (hidden comment: LQP03TN6N8J02D)
Film type RF Inductor 6.8nH ±5% 300mA 0.6Ω 0201 (0603); DC Resistance (DCR): 600mR; Q Factor: 14; Shielding: Unshielded; Self Resonant Frequency: 3.9GHz; Core Material: Non-Magnetic; Test Frequency: 500MHz; Mount: Surface Mount; Case Code (Metric): 0603; Depth: 0.33mm; DC Current: 300mA; Current Rating: 300mA; Height: 0.3mm; Min Operating Temperature: -55°C; Width: 0.012inch; Height - Seated (Max): 0.013inch; Package Quantity: 15000; Max DC Current: 300mA; Radiation Hardening: No; Resistor Type: Thin Film; Packaging: Tape and Reel; Length: 0.024inch; Case Code (Imperial): 0201; Weight: 6E-06oz; Military Standard: Not; Case/Package: 0201; Termination: SMD/SMT; Max Operating Temperature: 125°C; Tolerance: 5%
footprint FP-LQP03TG_02-IPC_A
footprint FP-LQP03TG_02-MFG
footprint FP-LQP03TG_02-IPC_C
footprint FP-LQP03TG_02-IPC_B
pins: 1, 2

## LTST-C191KFKT
designator LED?
Orange LED; Manufacturer: Lite-On; Datasheet Link: https://datasheet.datasheetarchive.com/originals/distributors/Datasheets-305/79307.pdf; Height: 0.55mm; Mouser Part Number: 859-LTST-C191KFKT; Mouser Price/Stock: https://www.mouser.co.uk/ProductDetail/Lite-On/LTST-C191KFKT?qs=1bx9pL%2Fk%252BiAv01YAc0eitQ%3D%3D; Arrow Part Number: LTST-C191KFKT; Arrow Price/Stock: https://www.arrow.com/en/products/ltst-c191kfkt/lite-on-technology.html?utm_currency=USD&region=nac; Part Number: LTST-C191KFKT; Value: Orange
footprint LEDC1608X55N
pins: 1 K, 2 A

## MP5077GG-Z
designator U?
Integrated Circuit; Manufacturer_Name: Monolithic Power Systems (MPS); Datasheet Link: http://www.monolithicpower.com/DesktopModules/DocumentManage/API/Document/getDocument?id=3265; Height: 1mm; Manufacturer_Part_Number: MP5077GG-Z; Mouser Part Number: 946-MP5077GG-Z; Mouser Price/Stock: https://www.mouser.co.uk/ProductDetail/Monolithic-Power-Systems-MPS/MP5077GG-Z?qs=AfGmtpoX2ghv3QovAD4CRg%3D%3D
footprint MP5077GGZ
pins: 1 EN, 2 GND, 3 VCC, 4 ILIM, 5 SS, 6 VIN, 7 VOUT, 8 VOUT, 9 VOUT, 10 VOUT, 11 VIN, 12 NC

## MPM3834CGPA-P
designator U?
Integrated Circuit; Manufacturer_Name: Monolithic Power Systems (MPS); Datasheet Link: https://www.monolithicpower.com/en/documentview/productdocument/index/version/2/document_type/Datasheet/lang/en/sku/MPM3834CGPA/document_id/9651/; Height: 1.31mm; Manufacturer_Part_Number: MPM3834CGPA-P; Mouser Part Number: 946-MPM3834CGPA-P; Mouser Price/Stock: https://www.mouser.co.uk/ProductDetail/Monolithic-Power-Systems-MPS/MPM3834CGPA-P?qs=By6Nw2ByBD1gcNTTHPVSOg%3D%3D
footprint MPM3834CGPAP
pins: 1 SW, 2 PGND (power), 3 EN (in), 4 AGND, 5 FB (in), 6 OUT_S, 7 PGND (power), 8 PGND (power), 9 OUT (power), 10 OUT (power), 11 PG, 12 IN (power), 13 IN (power), 14 IN (power)

## MPM3860GQW-Z
designator U?
Integrated Circuit; Manufacturer_Name: Monolithic Power Systems (MPS); Datasheet Link: https://www.monolithicpower.com/en/documentview/productdocument/index/version/2/document_type/Datasheet/lang/en/sku/MPM3860GQW-Z/document_id/8686/; Height: 1.65mm; Manufacturer_Part_Number: MPM3860GQW-Z; Mouser Part Number: 946-MPM3860GQW-Z; Mouser Price/Stock: https://www.mouser.co.uk/ProductDetail/Monolithic-Power-Systems-MPS/MPM3860GQW-Z?qs=vmHwEFxEFR%2FBBZgXfldbaA%3D%3D
footprint MPM3650CGQWZ
pins: 1 PGND, 2 PGND, 3 PGND, 4 PGND, 5 PGND, 6 VCC, 7 SW, 8 SW, 9 OUT, 10 OUT, 11 OUT, 12 OUT, 13 SW, 14 SW, 15 BST, 16 EN, 17 FB, 18 AGND, 19 SS, 20 PG, 21 PG, 22 VIN, 23 SW, 24 PGND

## MPZ0603S121HT000
designator FB?
CHIP BEADS FOR GENERAL SIGNAL LI; Max Current Rating: 1A; DC Resistance (DCR): 130mR; Number of Lines: 1; Min Operating Temperature: -55°C; Mount: Surface Mount; Case Code (Imperial): 0201; Case Code (Metric): 0603; Max Operating Temperature: 125°C; RoHS Compliant: Yes; Packaging: Cut Tape; Case/Package: 0201
footprint FP-MPZ0603-IPC_C
footprint FP-MPZ0603-IPC_B
footprint FP-MPZ0603-IPC_A
footprint FP-MPZ0603-MFG
pins: 1, 2

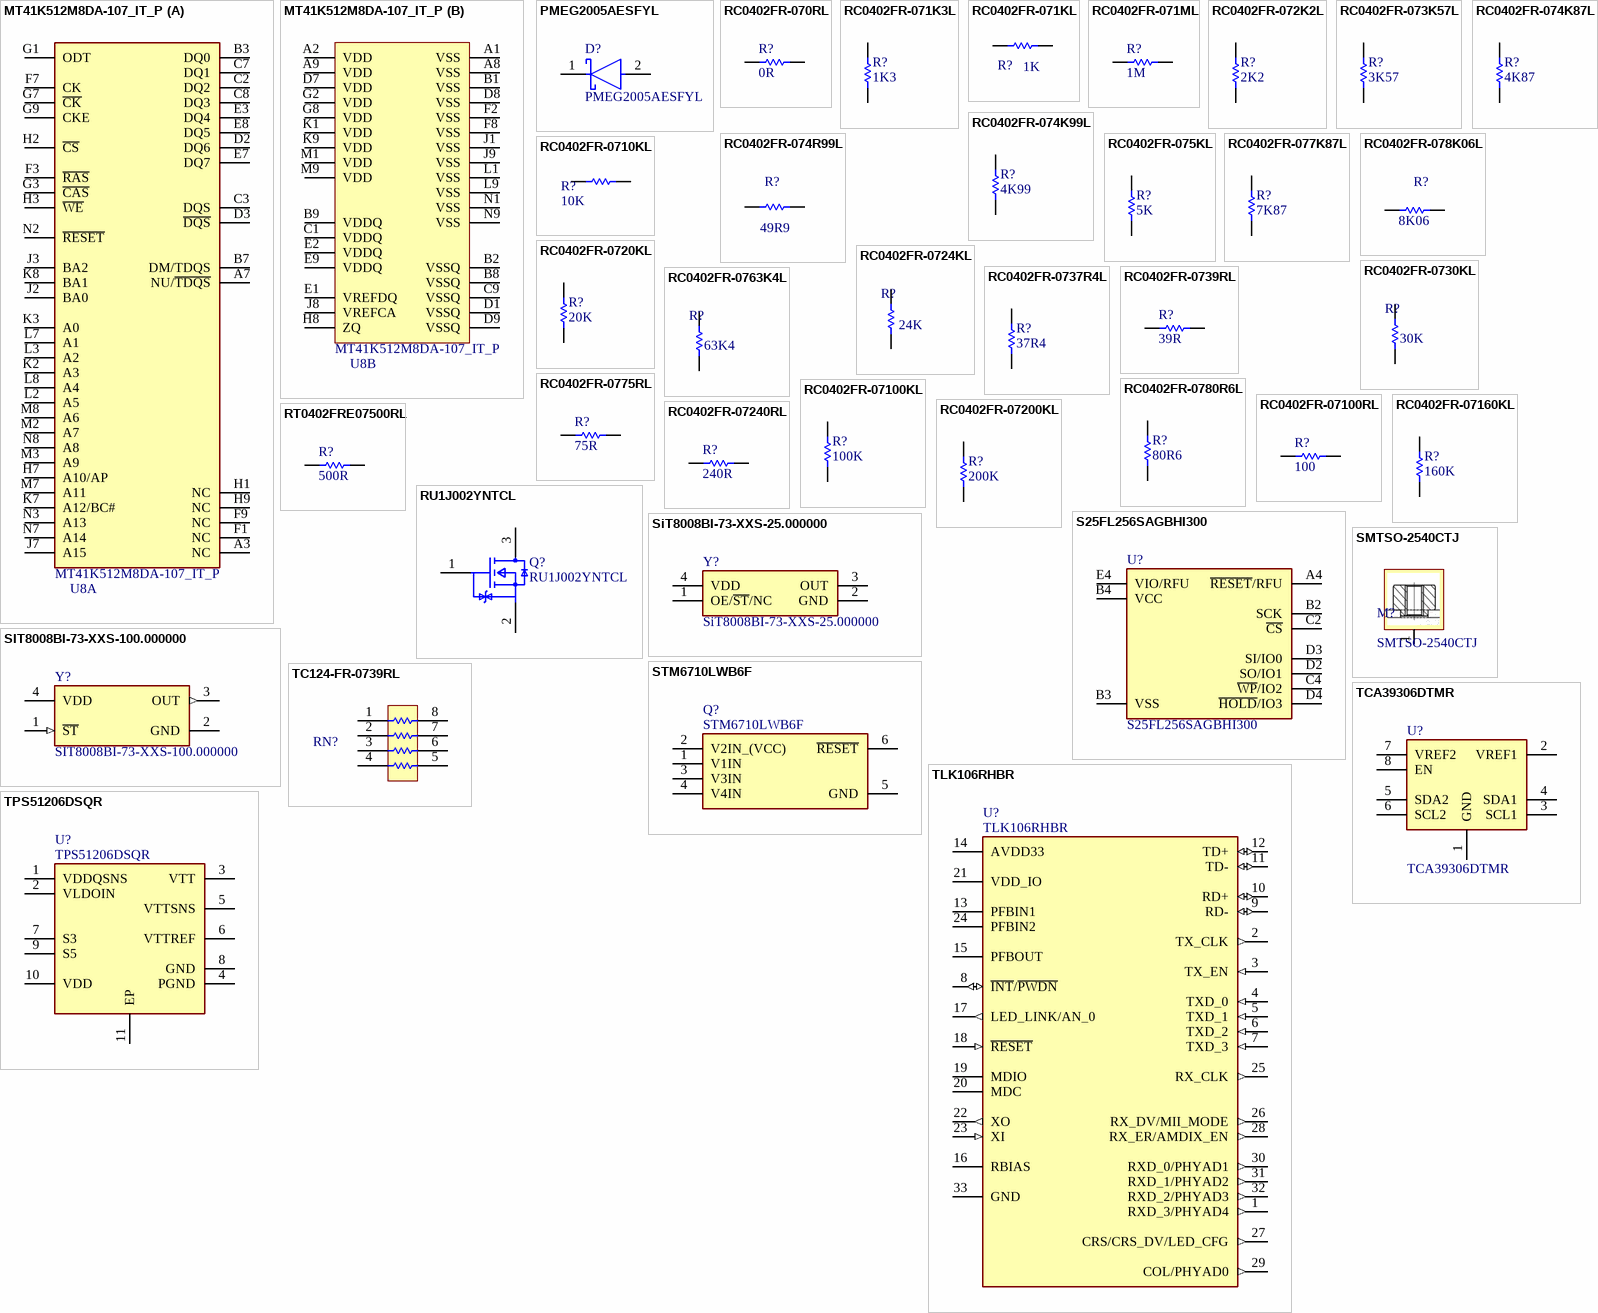
[diagram p1: symbols MT41K512M8DA-107_IT_P to TPS51206DSQR]

## MT41K512M8DA-107_IT_P
designator U8
Integrated Circuit; Manufacturer_Name: Micron; Manufacturer_Part_Number: MT41K512M8DA-107 IT:P; Datasheet Link: https://datasheet.datasheetarchive.com/originals/distributors/DKDS42/DSANUWW0045409.pdf; Height: 1.2mm; Mouser Part Number: 340-265832-TRAY; Mouser Price/Stock: https://www.mouser.co.uk/ProductDetail/Micron/MT41K512M8DA-107-ITP?qs=rrS6PyfT74e6FNRbiIMwlg%3D%3D; Arrow Part Number: MT41K512M8DA-107 IT:P; Arrow Price/Stock: https://www.arrow.com/en/products/mt41k512m8da-107-itp/micron-technology?region=europe
footprint BGA78C80P9X13_800X1050X120
part A pins: A3 NC, A7 NU/~{TDQS}, B3 DQ0, B7 DM/TDQS, C2 DQ2, C3 DQS, C7 DQ1, C8 DQ3, D2 DQ6, D3 ~{DQS}, E3 DQ4, E7 DQ7, E8 DQ5, F1 NC, F3 ~{RAS}, F7 CK, F9 NC, G1 ODT, G3 ~{CAS}, G7 ~{CK}, G9 CKE, H1 NC, H2 ~{CS}, H3 ~{WE}, H7 A10/AP, H9 NC, J2 BA0, J3 BA2, J7 A15, K2 A3, K3 A0, K7 A12/BC#, K8 BA1, L2 A5, L3 A2, L7 A1, L8 A4, M2 A7, M3 A9, M7 A11, M8 A6, N2 ~{RESET}, N3 A13, N7 A14, N8 A8
part B pins: A1 VSS, A2 VDD, A8 VSS, A9 VDD, B1 VSS, B2 VSSQ, B8 VSSQ, B9 VDDQ, C1 VDDQ, C9 VSSQ, D1 VSSQ, D7 VDD, D8 VSS, D9 VSSQ, E1 VREFDQ, E2 VDDQ, E9 VDDQ, F2 VSS, F8 VSS, G2 VDD, G8 VDD, H8 ZQ, J1 VSS, J8 VREFCA, J9 VSS, K1 VDD, K9 VDD, L1 VSS, L9 VSS, M1 VDD, M9 VDD, N1 VSS, N9 VSS

## PMEG2005AESFYL
designator D?
DIODE SCHOTTKY 20V 0.5A SOD962; Manufacturer: Nexperia; Max Junction Temp: +150°C; Peak Reverse Current: 10uA; Capacitance: 25pF; Forward Current: 0.71A; Max Surge Forward Current: 4.5A; Value: 25pF; Lead Free: Yes; ComponentLink2Description: Datasheet; Octopart: https://octopart.com/pmeg2005aesfyl-nexperia-78741393; Ambient Temperature Range High: +150°C; Height: 0.32mm; Footprint Url: https://assets.nexperia.com/documents/outline-drawing/SOD962-2.pdf; Automotive: No; Device Class L2: Diodes; Ambient Temperature Range Low: -55°C; Device Class L3: Schottky Diodes; ComponentLink2URL: https://assets.nexperia.com/documents/data-sheet/PMEG2005AESF.pdf; Reverse Voltage: 20V; Temperature: to +150°C; Temperature Range High: +150°C; Device Class L1: Discrete Semiconductors; RoHS: TRUE; Digikey Description: DIODE SCHOTTKY 20V 0.5A SOD962; Category: Diode; Package: SOD962; Manufacturer Part Number: PMEG2005AESFYL
footprint FP-PMEG2005AESFYL-MFG
pins: 1 K, 2 A

## RC0402FR-070RL
designator R?  value 0R  (hidden comment: RC0402FR-070RL)
RES 0R OHM 1% 1/16W 0402; Manufacturer: Yageo / Phycomp; Manufacturer Part Number: RC0402FR-071KL; Power Dissipation: 62.5mW; Power Rating: 63mW; Temperature Coefficient: 100ppm/°C; Voltage Rating: 50V; Part Number: RC0402FR-070RL; Supplier: Farnell; Supplier Part Number: 2421889; RoHS: Compliant; Category: Chip SMD Resistors; Stock: 6760000; Pricing: 10000=0.464, 50000=0.406, 100000=0.336 (JPY); Case/Package: 0402; Case Code (Imperial): 0402; Case Code (Metric): 0402; China RoHS: Non-Compliant; Composition: Thick Film; Depth: 500µm; Height: 350µm; Lead Free: Lead Free; Length: 1mm; Lifecycle Status: Production; Max Operating Temperature: 155°C; Military Standard: Not; Min Operating Temperature: -55°C; Mounting Technology: Surface Mount; Pins: 2; Number of Terminals: 2; Packaging: Tape & Reel; REACH SVHC: Yes; Schedule B: 8533210045, 8533210045|8533210045|8533210045|8533210045|8533210045|8533210045|8533210045|8533210045|8533210045|8533210045|8533210045|8533210045|8533210045|8533210045|8533210045|8533210045|8533210045|8533210045|8533210045|8533210045|8533210045|8533210045|8533210045|85; Termination: SMD/SMT; Tolerance: 1%; Voltage Rating (AC): 50V; Voltage Rating (DC): 50V; Width: 500µm; Working Voltage: 50V; ComponentLink1URL: https://datasheet.octopart.com:443/RC0402FR-071KL-Yageo-datasheet-175887523.pdf?src-supplier=IHS; ComponentLink1Description: https://datasheet.octopart.com:443/RC0402FR-071KL-Yageo-datasheet-175887523.pdf?src-supplier=IHS; ComponentLink2URL: https://datasheet.octopart.com:443/RC0402FR-071KL-Yageo-datasheet-164759695.pdf?src-supplier=Upverter; ComponentLink2Description: https://datasheet.octopart.com:443/RC0402FR-071KL-Yageo-datasheet-164759695.pdf?src-supplier=Upverter; ComponentLink3URL: https://datasheet.octopart.com:443/RC0402FR-071KL-Yageo-datasheet-103092701.pdf?src-supplier=Upverter; ComponentLink3Description: https://datasheet.octopart.com:443/RC0402FR-071KL-Yageo-datasheet-103092701.pdf?src-supplier=Upverter; ComponentLink4URL: https://sigma.octopart.com:443/138820526/technical_drawing/Yageo-RC0402FR-071KL.pdf?src-supplier=Upverter; ComponentLink4Description: https://sigma.octopart.com:443/138820526/technical_drawing/Yageo-RC0402FR-071KL.pdf?src-supplier=Upverter; ComponentLink5URL: https://datasheet.octopart.com:443/RC0402FR-071KL-Yageo-datasheet-98239111.pdf?src-supplier=Upverter; ComponentLink5Description: https://datasheet.octopart.com:443/RC0402FR-071KL-Yageo-datasheet-98239111.pdf?src-supplier=Upverter; ComponentLink6URL: https://datasheet.octopart.com:443/RC0402FR-071KL-Yageo-Group-datasheet-190305687.pdf?src-supplier=Future+Electronics; ComponentLink6Description: https://datasheet.octopart.com:443/RC0402FR-071KL-Yageo-Group-datasheet-190305687.pdf?src-supplier=Future+Electronics; ComponentLink7URL: https://datasheet.octopart.com:443/RC0402FR-071KL-Yageo-datasheet-12531192.pdf?src-supplier=Future+Electronics; ComponentLink7Description: https://datasheet.octopart.com:443/RC0402FR-071KL-Yageo-datasheet-12531192.pdf?src-supplier=Future+Electronics; ComponentLink8URL: https://datasheet.octopart.com:443/RC0402FR-071KL-Yageo-datasheet-137700087.pdf?src-supplier=Future+Electronics; ComponentLink8Description: https://datasheet.octopart.com:443/RC0402FR-071KL-Yageo-datasheet-137700087.pdf?src-supplier=Future+Electronics; ComponentLink9URL: https://datasheet.octopart.com:443/RC0402FR-071KL-Yageo-datasheet-8324255.pdf?src-supplier=Future+Electronics; ComponentLink9Description: https://datasheet.octopart.com:443/RC0402FR-071KL-Yageo-datasheet-8324255.pdf?src-supplier=Future+Electronics; ComponentLink10URL: https://datasheet.octopart.com:443/RC0402FR-071KL-Yageo-datasheet-10408619.pdf?src-supplier=Newark; ComponentLink10Description: https://datasheet.octopart.com:443/RC0402FR-071KL-Yageo-datasheet-10408619.pdf?src-supplier=Newark; ComponentLink11URL: https://datasheet.octopart.com:443/RC0402FR-071KL-Yageo-datasheet-8324527.pdf?src-supplier=Newark; ComponentLink11Description: https://datasheet.octopart.com:443/RC0402FR-071KL-Yageo-datasheet-8324527.pdf?src-supplier=Newark; ComponentLink12URL: https://datasheet.octopart.com:443/RC0402FR-071KL-Yageo-datasheet-62067350.pdf?src-supplier=Farnell; ComponentLink12Description: https://datasheet.octopart.com:443/RC0402FR-071KL-Yageo-datasheet-62067350.pdf?src-supplier=Farnell; ComponentLink13URL: https://datasheet.octopart.com:443/RC0402FR-071KL-Yageo-datasheet-8329306.pdf?src-supplier=element14; ComponentLink13Description: https://datasheet.octopart.com:443/RC0402FR-071KL-Yageo-datasheet-8329306.pdf?src-supplier=element14; ComponentLink14URL: https://datasheet.octopart.com:443/RC0402FR-071KL-Yageo-datasheet-505231.pdf?src-supplier=element14; ComponentLink14Description: https://datasheet.octopart.com:443/RC0402FR-071KL-Yageo-datasheet-505231.pdf?src-supplier=element14; ComponentLink15URL: https://datasheet.octopart.com:443/RC0402FR-071KL-Yageo-datasheet-175423674.pdf?src-supplier=SOS+electronic; ComponentLink15Description: https://datasheet.octopart.com:443/RC0402FR-071KL-Yageo-datasheet-175423674.pdf?src-supplier=SOS+electronic; ComponentLink16URL: https://datasheet.octopart.com:443/RC0402FR-071KL-Yageo-datasheet-148775077.pdf?src-supplier=TME; ComponentLink16Description: https://datasheet.octopart.com:443/RC0402FR-071KL-Yageo-datasheet-148775077.pdf?src-supplier=TME; ComponentLink17URL: https://datasheet.octopart.com:443/RC0402FR-071KL-Yageo-datasheet-79472498.pdf?src-supplier=Megastar; ComponentLink17Description: https://datasheet.octopart.com:443/RC0402FR-071KL-Yageo-datasheet-79472498.pdf?src-supplier=Megastar; ComponentLink18URL: https://datasheet.octopart.com/RC0402FR-071KL-Yageo-datasheet-73766026.pdf; ComponentLink18Description: https://datasheet.octopart.com/RC0402FR-071KL-Yageo-datasheet-73766026.pdf; ComponentLink19URL: http://sigma.octopart.com:80/conflict_mineral_statement/Yageo-company-3.pdf?src-supplier=Compliance+Statements; ComponentLink19Description: http://sigma.octopart.com:80/conflict_mineral_statement/Yageo-company-3.pdf?src-supplier=Compliance+Statements; ComponentLink20URL: http://sigma.octopart.com:80/rohs_statement/Yageo-company-2.pdf?src-supplier=Compliance+Statements; ComponentLink20Description: http://sigma.octopart.com:80/rohs_statement/Yageo-company-2.pdf?src-supplier=Compliance+Statements; Supplier 1: Avnet; Supplier Part Number 1: RC0402FR-070RL
footprint RESC1005X40X25NL05T10 (Chip Resistor, 2-Leads, Body 1.00x0.50mm, IPC Medium Density)
footprint RESC1005X40X25LL05T10 (Chip Resistor, 2-Leads, Body 1.00x0.50mm, IPC High Density)
footprint RESC1005X40X25ML05T10 (Chip Resistor, 2-Leads, Body 1.00x0.50mm, IPC Low Density)
pins: 1, 2
1 alternate drawing of the same symbol

## RC0402FR-071K3L
designator R?  value 1K3  (hidden comment: RC0402FR-071K3L)
Manufacturer: Yageo / Phycomp; Part Number: RC0402FR-071K3L
footprint RESC1005X40X25ML05T10 (Chip Resistor, 2-Leads, Body 1.00x0.50mm, IPC Low Density)
footprint RESC1005X40X25LL05T10 (Chip Resistor, 2-Leads, Body 1.00x0.50mm, IPC High Density)
footprint RESC1005X40X25NL05T10 (Chip Resistor, 2-Leads, Body 1.00x0.50mm, IPC Medium Density)
pins: 1, 2
1 alternate drawing of the same symbol